# Altium footprint library libreriaPcb.PcbLib: 683 footprints (part 22 of 44)
Each footprint in its own frame and in the unit in brackets; x right, y up, seen from the top. Pads: shape width x height; smd on the part's side, far side on the other; paste and mask are expansions set on the pad; w line width, h text height; cw(c..) or ccw(c..) is an arc to the next point about the centre after c.
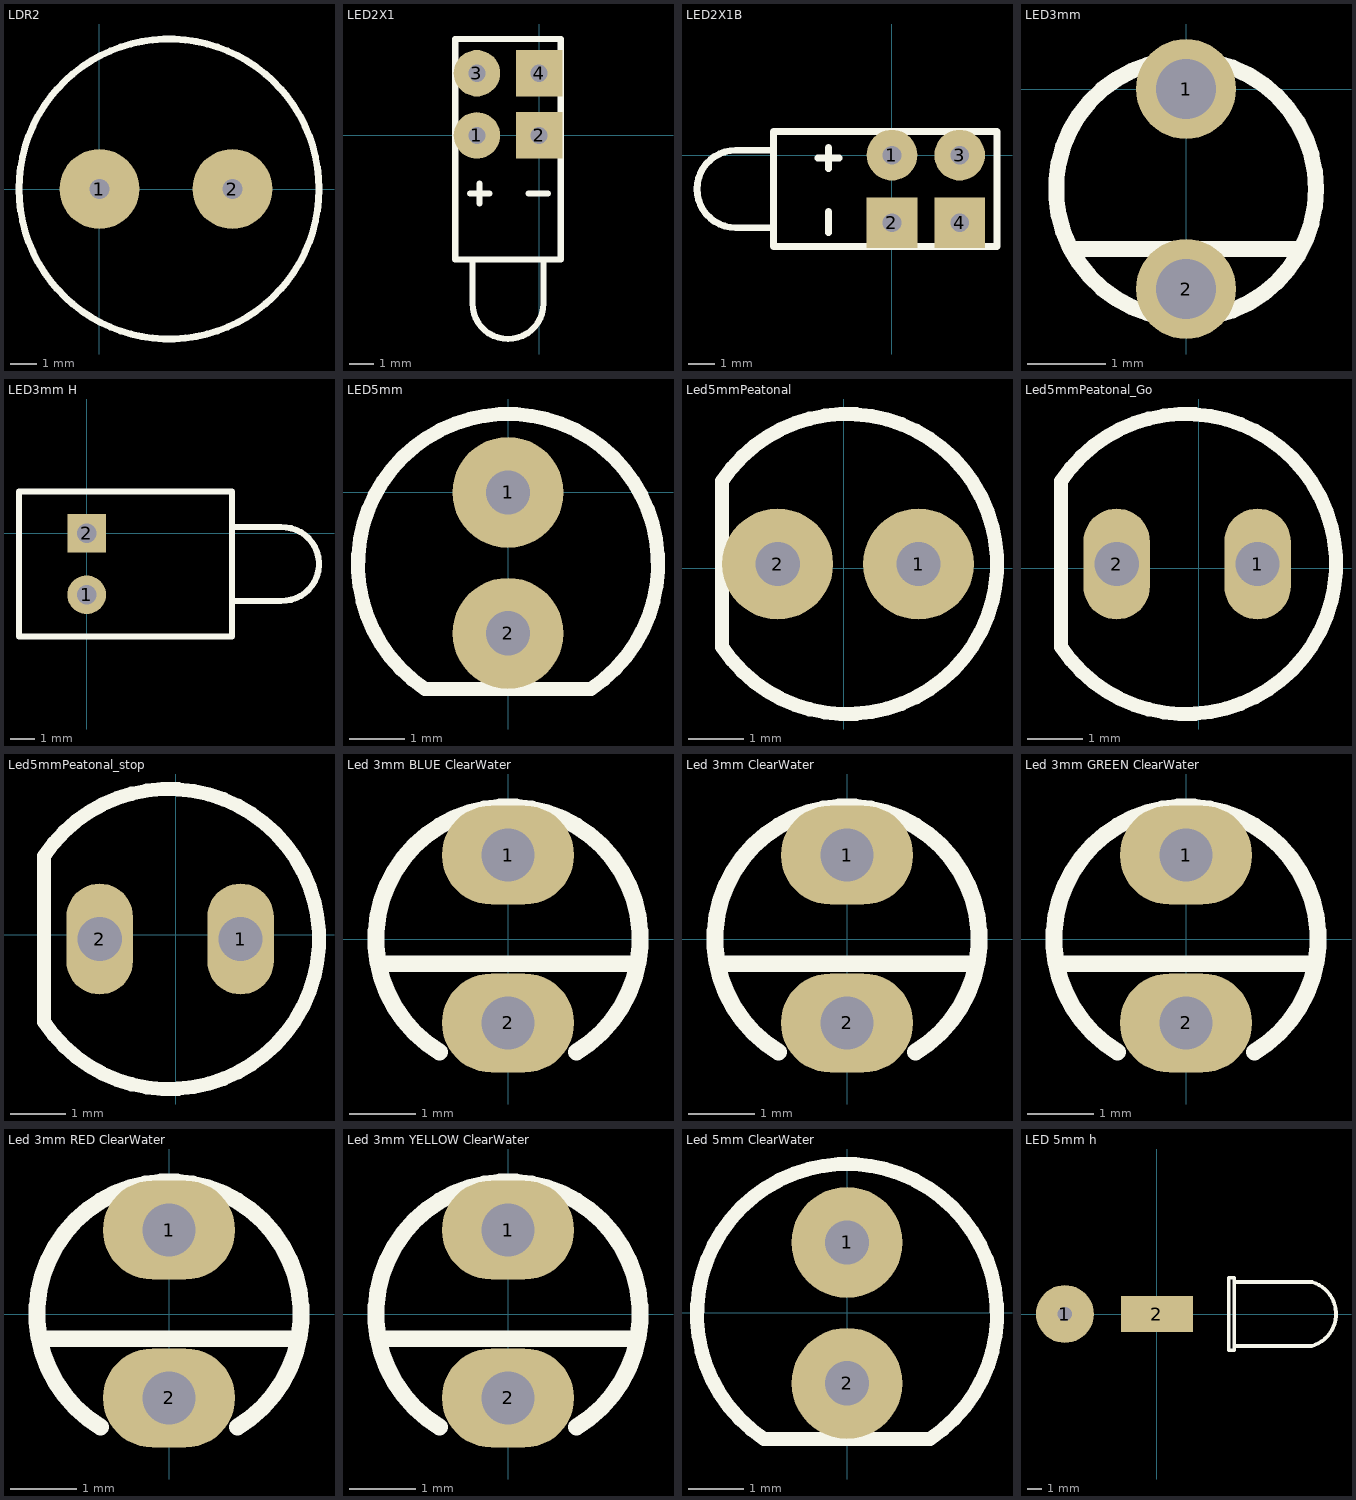
[diagram p21: the footprints below, top view; thin cyan lines are the x and y axes]

## LDR2 [mm]
pads (2):
  round 3 hole 0.75: 1(0,0) 2(5,0)
Top Overlay:
  circle w0.254: c2.616,0 r5.639

## LED2X1 [mm]
pads (4):
  round 1.9 hole 0.7: 1(-2.54,0) 3(-2.54,2.54)
  rect 1.9x1.9 hole 0.7: 2(0,0) 4(0,2.54)
Top Overlay:
  lines w0.254: -2.83,-2.38 -2.43,-2.38 ; -2.72,-5.08 -2.72,-6.88 ccw(c-1.27,-6.88) 0.18,-6.88 0.18,-5.08 ; -2.43,-2.78 -2.43,-2.38 ; -2.43,-1.98 -2.43,-2.38 ; -2.03,-2.38 -2.43,-2.38 ; -0.43,-2.38 -0.03,-2.38 0.37,-2.38 ; -3.43,-5.08 0.89,-5.08 0.89,3.94 -3.43,3.94 -3.43,-5.08

## LED2X1B [mm]
pads (4):
  round 1.9 hole 0.7: 1(0,0) 3(2.54,0)
  rect 1.9x1.9 hole 0.7: 2(0,-2.54) 4(2.54,-2.54)
Top Overlay:
  lines w0.254: -4.572,-2.72 -5.864,-2.72 cw(c-5.864,-1.27) -5.864,0.18 -4.572,0.18 ; -2.78,-0.11 -2.38,-0.11 ; -2.38,-2.91 -2.38,-2.51 -2.38,-2.11 ; -2.38,-0.51 -2.38,-0.11 ; -2.38,0.29 -2.38,-0.11 ; -1.98,-0.11 -2.38,-0.11 ; -4.445,-3.43 -4.445,0.89 3.94,0.89 3.94,-3.43 -4.445,-3.43

## LED3mm [mil]
pads (2):
  round 50 hole 30: 1(0,0) 2(0,-100)
Top Overlay:
  circle w8: c0,-50 r65
  lines w8: -55,-80 55,-80

## LED3mm H [mm]
pads (2):
  round 1.6 hole 0.8: 1(0,-2.54)
  rect 1.6x1.6 hole 0.8: 2(0,0)
Top Overlay:
  lines w0.254: 0.006,-4.27 6.006,-4.27 ; 6.006,-4.27 6.006,1.73 -2.794,1.73 -2.794,-4.27 6.006,-4.27 ; 6.006,-2.794 6.006,0.254 8.038,0.254 cw(c8.078,-1.27) 8.038,-2.794 6.006,-2.794

## LED5mm [mm]
pads (2):
  round 2 hole 0.8: 1(0,0) 2(0,-2.54)
Top Overlay:
  lines w0.254: -1.5,-3.54 cw(c0,-1.29) 1.5,-3.54 -1.5,-3.54

## Led5mmPeatonal [mm]
pads (2):
  round 2 hole 0.8: 1(1.348,0.076) 2(-1.192,0.076)
Top Overlay:
  lines w0.254: -2.192,-1.424 ccw(c0.058,0.076) -2.192,1.576 -2.192,-1.424
3D body: height 0.5, standoff -0.5, extent -1.692,-0.424 -0.692,0.576
3D body: height 0.5, standoff -0.5, extent 0.848,-0.424 1.848,0.576
3D body: height -0.5, standoff -1.5, extent -1.422,-1.424 1.578,1.576
3D body: height -0.5, standoff -8.5, extent -2.421,-2.424 2.577,2.576

## Led5mmPeatonal_Go [mm]
pads (2):
  oval 1.2x2 hole 0.8: 1(1.063,0.074) 2(-1.477,0.074)
Top Overlay:
  lines w0.254: -2.477,-1.426 ccw(c-0.227,0.074) -2.477,1.574 -2.477,-1.426
3D body: height 0.5, standoff -0.5, extent 0.563,-0.426 1.563,0.574
3D body: height 0.5, standoff -0.5, extent -1.977,-0.426 -0.977,0.574
3D body: height -0.5, standoff -8.5, extent -2.706,-2.426 2.292,2.574

## Led5mmPeatonal_stop [mm]
pads (2):
  oval 1.2x2 hole 0.8: 1(1.164,-0.078) 2(-1.376,-0.078)
Top Overlay:
  lines w0.254: -2.376,-1.578 ccw(c-0.126,-0.078) -2.376,1.422 -2.376,-1.578
3D body: height 0.5, standoff -0.5, extent 0.665,-0.578 1.664,0.422
3D body: height 0.5, standoff -0.5, extent -1.875,-0.578 -0.876,0.422
3D body: height -0.5, standoff -8.5, extent -2.604,-2.578 2.393,2.422

## Led 3mm BLUE ClearWater [mm]
pads (2):
  oval 2x1.5 hole 0.8: 1(0,1.27) 2(0,-1.27)
Top Overlay:
  lines w0.254: -1.95,-0.375 1.95,-0.375 ; -1.035,-1.712 cw(c0,-0.001) 1.035,-1.712
3D body: height 5.5, standoff 2.5, extent -1.56,-1.358 1.438,1.642
3D body: height 1, standoff 0, extent -1.761,-1.466 1.779,1.793
3D body: height 4, standoff 0, extent -1.562,-1.358 1.438,1.642

## Led 3mm ClearWater [mm]
pads (2):
  oval 2x1.5 hole 0.8: 1(0,1.27) 2(0,-1.27)
Top Overlay:
  lines w0.254: -1.95,-0.375 1.95,-0.375 ; -1.035,-1.712 cw(c0,-0.001) 1.035,-1.712
3D body: height 4, standoff 0, extent -1.562,-1.358 1.438,1.642
3D body: height 1, standoff 0, extent -1.761,-1.466 1.779,1.793
3D body: height 5.5, standoff 2.5, extent -1.56,-1.358 1.438,1.642

## Led 3mm GREEN ClearWater [mm]
pads (2):
  oval 2x1.5 hole 0.8: 1(0,1.27) 2(0,-1.27)
Top Overlay:
  lines w0.254: -1.95,-0.375 1.95,-0.375 ; -1.035,-1.712 cw(c0,-0.001) 1.035,-1.712
3D body: height 5.5, standoff 2.5, extent -1.56,-1.358 1.438,1.642
3D body: height 1, standoff 0, extent -1.761,-1.466 1.779,1.793
3D body: height 4, standoff 0, extent -1.562,-1.358 1.438,1.642

## Led 3mm RED ClearWater [mm]
pads (2):
  oval 2x1.5 hole 0.8: 1(0,1.27) 2(0,-1.27)
Top Overlay:
  lines w0.254: -1.95,-0.375 1.95,-0.375 ; -1.035,-1.712 cw(c0,-0.001) 1.035,-1.712
3D body: height 4, standoff 0, extent -1.562,-1.358 1.438,1.642
3D body: height 1, standoff 0, extent -1.761,-1.466 1.779,1.793
3D body: height 5.5, standoff 2.5, extent -1.56,-1.358 1.438,1.642

## Led 3mm YELLOW ClearWater [mm]
pads (2):
  oval 2x1.5 hole 0.8: 1(0,1.27) 2(0,-1.27)
Top Overlay:
  lines w0.254: -1.95,-0.375 1.95,-0.375 ; -1.035,-1.712 cw(c0,-0.001) 1.035,-1.712
3D body: height 4, standoff 0, extent -1.562,-1.358 1.438,1.642
3D body: height 1, standoff 0, extent -1.761,-1.466 1.779,1.793
3D body: height 5.5, standoff 2.5, extent -1.56,-1.358 1.438,1.642

## Led 5mm ClearWater [mm]
pads (2):
  round 2 hole 0.8: 1(0,1.27) 2(0,-1.27)
Top Overlay:
  lines w0.254: -1.5,-2.27 cw(c0,-0.02) 1.5,-2.27 -1.5,-2.27
3D body: height 9.5, standoff 4.5, extent -2.559,-2.357 2.438,2.641
3D body: height 1, standoff 0, extent -2.835,-2.372 2.747,2.795
3D body: height 7, standoff 0, extent -2.562,-2.357 2.438,2.642

## LED 5mm h [mm]
pads (2):
  round 4 hole 1: 1(-6.35,0)
  rect 5x2.5 smd: 2(0,0)
Top Overlay:
  lines w0.254: 5.381,-2.212 10.668,-2.212 ccw(c10.059,0.003) 10.711,2.206 ; 5.381,2.212 10.668,2.212 ; 4.953,-2.5 5.334,-2.5 5.334,2.5 4.953,2.5 4.953,-2.5